# Altium schematic symbol library Schlib_regulator 5v.SchLib: 1 symbol
Pins are listed as number, name and electrical type; pins without a type are passive.

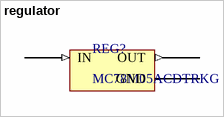
[diagram p0: symbol regulator]

## regulator
designator REG?, comment MC78M05ACDTRKG
500mA 80dB@(120Hz) Fixed 5V Positive electrode 35V TO-252-2(DPAK) Voltage Regulators - Linear, Low Drop Out (LDO) Regulators ROHS; Manufacturer: onsemi; ComponentLink1Description: snapeda link; ComponentLink1URL: https://www.snapeda.com/parts/MC78M05ACDTRKG/onsemi/view-part/?ref=search&t=regulator%205v%20smd; ComponentLink2Description: Datasheet; ComponentLink2URL: https://www.snapeda.com/parts/MC78M05ACDTRKG/onsemi/datasheet/; ComponentLink3Description: LCSC link; ComponentLink3URL: https://www.lcsc.com/product-detail/Voltage-Regulators-Linear-Low-Drop-Out-LDO-Regulators_onsemi-MC78M05ACDTRKG_C232660.html; Manufacturer part number: MC78M05ACDTRKG; supplier: LCSC; supplier part number: C232660
footprint PCBComponent_1
pins: 1 IN (in), 2 OUT (out), 3 GND